# Altium footprint library VCC.PcbLib: 1 footprints
Each footprint in its own frame and in the unit in brackets; x right, y up, seen from the top. Pads: shape width x height; smd on the part's side, far side on the other; paste and mask are expansions set on the pad; w line width, h text height; cw(c..) or ccw(c..) is an arc to the next point about the centre after c.
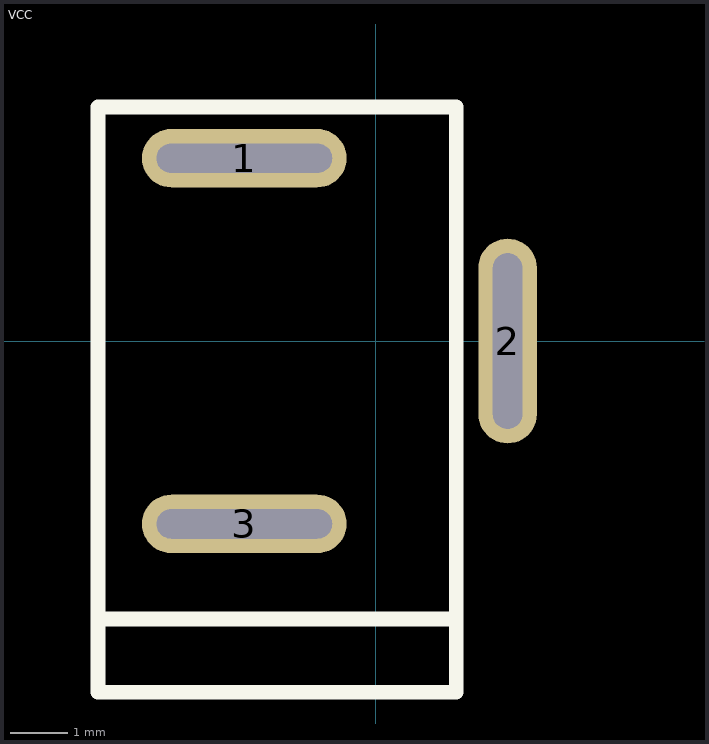
[diagram p0: the footprint, top view; thin cyan lines are the x and y axes]

## VCC [mil] "JACK插头"
pads (3):
  oval 140x40 hole 20 slot 120 at 0 deg: 1(-90,125) 3(-90,-125)
  oval 40x140 hole 20 slot 120 at 90 deg: 2(90,0)
Top Overlay:
  lines w10: -190,-190 -190,-240 55,-240 55,-190 ; -190,-190 -190,160 55,160 55,-190 ; -190,-190 55,-190